# EAGLE library part ADM3072E (library U-Transceiver)
3.3 V, ±15 kV ESD-Protected, Half-Duplex, RS-485/RS-422 Transceiver has ⅛ unit load receiver input impedance, which allows up to 256 transceivers on a bus
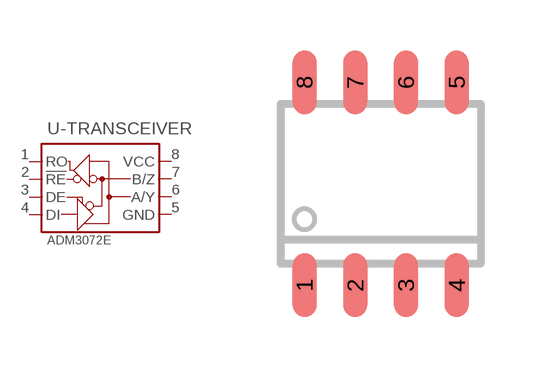
[diagram p2: symbol with the pads of SOIC8; footprint SOIC8]

Designator prefix U-TRANSCEIVER

## ADM3072E  [SOIC8]
1  RO  out
2  !RE  in
3  DE  in
4  DI  in
5  GND  pwr
6  A/Y
7  B/Z
8  VCC  pwr

## Footprint SOIC8 (pad centres in mm)
8POS Standard SMALLl OUTLINE Package (SO/SOIC) Narrow Body
smd 0.6 x 1.6: 1 -1.905,-2.54; 2 -0.635,-2.54; 3 0.635,-2.54; 4 1.905,-2.54; 5 1.905,2.54; 6 0.635,2.54; 7 -0.635,2.54; 8 -1.905,2.54